# EAGLE library part ESP-P8 (library esp8622)
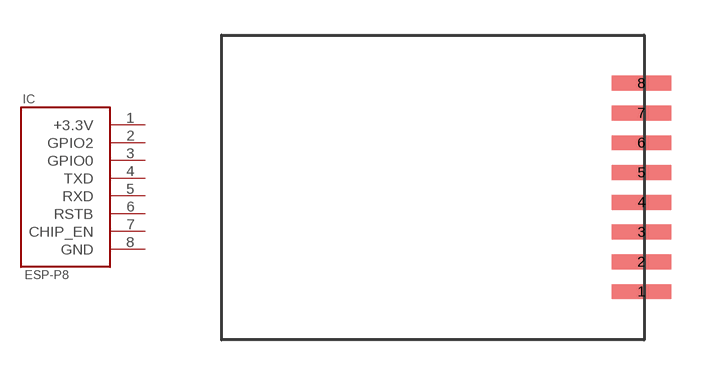
[diagram p0: symbol with the pads of ESP-11; footprint ESP-11]

Designator prefix IC

## ESP-P8  [ESP-11]
1  +3.3V  sup
2  GPIO2
3  GPIO0
4  TXD  out
5  RXD  in
6  RSTB  in
7  CHIP_EN  in
8  GND  sup

## Footprint ESP-11 (pad centres in mm)
smd 2.54 x 0.635: 1 8.89,-4.445; 2 8.89,-3.175; 3 8.89,-1.905; 4 8.89,-0.635; 5 8.89,0.635; 6 8.89,1.905; 7 8.89,3.175; 8 8.89,4.445